# Altium schematic symbol library Boots.SchLib: 1 symbol
Pins are listed as number, name and electrical type; pins without a type are passive.

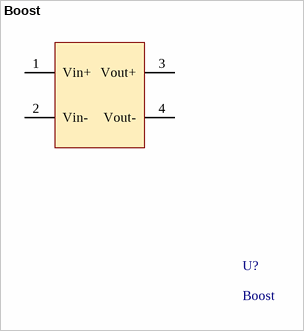
[diagram p0: symbol Boost]

## Boost
designator U?
footprint boost ha ap 5v
pins: 1 Vin+, 2 Vin-, 3 Vout+, 4 Vout-